# EAGLE library part NL27WZ32USG (library Hocki_library )
OR Gate IC 2 Channel US8 DigiKey <https://www.digikey.com/product-detail/en/on-semiconductor/NL27WZ32USG/NL27WZ32USGOSCT-ND/964591>
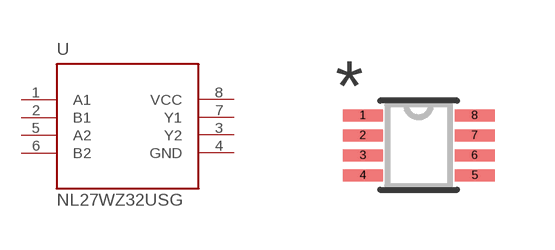
[diagram p6: symbol with the pads of US8; footprint US8]

Designator prefix U

## NL27WZ32USG (DKPN: NL27WZ32USGOSCT-ND)  [US8]
1  A1  pas
2  B1  pas
3  Y2  pas
4  GND  pas
5  A2  pas
6  B2  pas
7  Y1  pas
8  VCC  pas

## Footprint US8 (pad centres in mm)
smd 1 x 0.3: 1 -1.4,0.75; 2 -1.4,0.25; 3 -1.4,-0.25; 4 -1.4,-0.75; 5 1.4,-0.75; 6 1.4,-0.25; 7 1.4,0.25; 8 1.4,0.75